# EAGLE library part STM32F411CEU6 (library BlackPill_STM32F411CEU6)
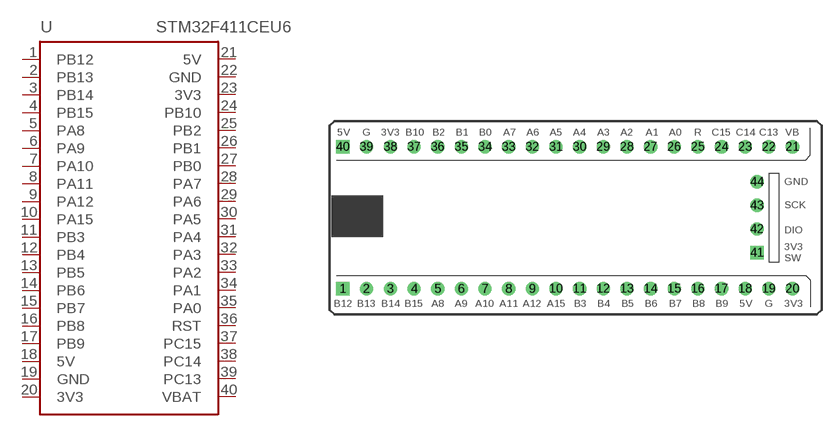
[diagram p0: symbol with the pads of BLACKPILL_V2; footprint BLACKPILL_V2]

Designator prefix -

## STM32F411CEU6  [BLACKPILL_V2]
1  PB12
2  PB13
3  PB14
4  PB15
5  PA8
6  PA9
7  PA10
8  PA11
9  PA12
10  PA15
11  PB3
12  PB4
13  PB5
14  PB6
15  PB7
16  PB8
17  PB9
18  5V
19  GND
20  3V3
21  5V
22  GND
23  3V3
24  PB10
25  PB2
26  PB1
27  PB0
28  PA7
29  PA6
30  PA5
31  PA4
32  PA3
33  PA2
34  PA1
35  PA0
36  RST
37  PC15
38  PC14
39  PC13
40  VBAT

## Footprint BLACKPILL_V2 (pad centres in mm)
drill 0.92 square: 1 -25.005,-7.62; 40 -25.005,7.62; 41 19.475,-3.76
drill 0.92: 2 -22.465,-7.62; 3 -19.89,-7.62; 4 -17.35,-7.62; 5 -14.81,-7.62; 6 -12.27,-7.62; 7 -9.73,-7.62; 8 -7.19,-7.62; 9 -4.65,-7.62; 10 -2.11,-7.62; 11 0.43,-7.62; 12 2.97,-7.62; 13 5.51,-7.62; 14 8.05,-7.62; 15 10.59,-7.62; 16 13.13,-7.62; 17 15.67,-7.62; 18 18.21,-7.62; 19 20.75,-7.62; 20 23.29,-7.62; 21 23.29,7.62; 22 20.75,7.62; 23 18.21,7.62; 24 15.67,7.62; 25 13.13,7.62; 26 10.59,7.62; 27 8.05,7.62; 28 5.51,7.62; 29 2.97,7.62; 30 0.43,7.62; 31 -2.11,7.62; 32 -4.65,7.62; 33 -7.19,7.62; 34 -9.73,7.62; 35 -12.27,7.62; 36 -14.81,7.62; 37 -17.35,7.62; 38 -19.89,7.62; 39 -22.465,7.62; 42 19.475,-1.22; 43 19.475,1.32; 44 19.475,3.86